# EAGLE library part M40-6002546R (library ds_con)
1.00mm Pitch DIL Vertical SMT Assembly
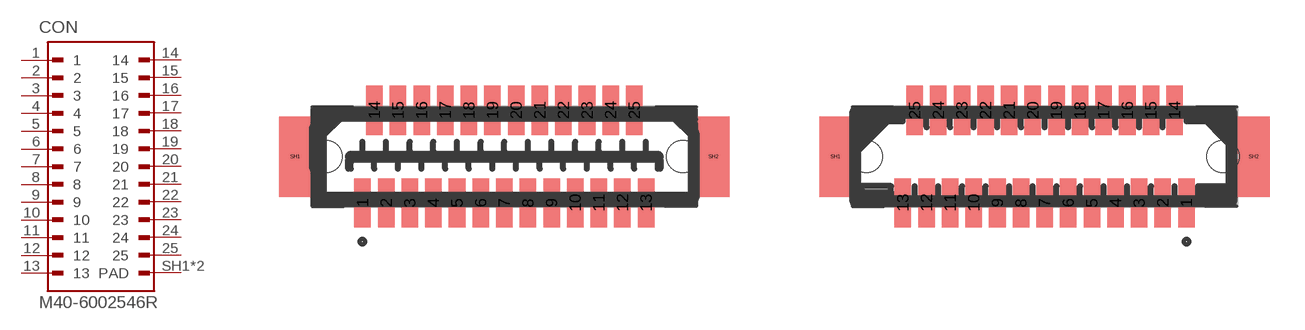
[diagram p8: symbol with the pads of M40-6002546R; footprints M40-6002546R, M40-6202546]

Designator prefix CON

## M40-6002546R (DESCRIPTION: 1.00mm Pitch DIL Vertical SMT Plug Assembly, location pegs, tin, 25 contacts, Tape & Reel packing; VALUE: M40-6002546R)  [M40-6002546R]
1  1  pas
2  2  pas
3  3  pas
4  4  pas
5  5  pas
6  6  pas
7  7  pas
8  8  pas
9  9  pas
10  10  pas
11  11  pas
12  12  pas
13  13  pas
14  14  pas
15  15  pas
16  16  pas
17  17  pas
18  18  pas
19  19  pas
20  20  pas
21  21  pas
22  22  pas
23  23  pas
24  24  pas
25  25  pas
SH1  PAD  pas
SH2  PAD  pas

## M40-6002546RA (DESCRIPTION: 1.00mm Pitch DIL Vertical SMT Socket Assembly, location pegs, tin, 25 contacts, Tape & Reel packing; VALUE: M40-6202546R)  [M40-6202546]
Pads as for M40-6002546R

## Footprint M40-6002546R (pad centres in mm)
smd 0.7 x 2.08: 1 -6,-1.96; 2 -5,-1.96; 3 -4,-1.96; 4 -3,-1.96; 5 -2,-1.96; 6 -1,-1.96; 7 0,-1.96; 8 1,-1.96; 9 2,-1.96; 10 3,-1.96; 11 4,-1.96; 12 5,-1.96; 13 6,-1.96; 14 -5.5,1.96; 15 -4.5,1.96; 16 -3.5,1.96; 17 -2.5,1.96; 18 -1.5,1.96; 19 -0.5,1.96; 20 0.5,1.96; 21 1.5,1.96; 22 2.5,1.96; 23 3.5,1.96; 24 4.5,1.96; 25 5.5,1.96
smd 0.1 x 0.1: SH1 -8.85,0; SH2 8.85,0
hole 1.35 at -7.55,0
hole 1.35 at 7.55,0

## Footprint M40-6202546 (pad centres in mm)
smd 0.7 x 2.08: 1 6,-1.96; 2 5,-1.96; 3 4,-1.96; 4 3,-1.96; 5 2,-1.96; 6 1,-1.96; 7 0,-1.96; 8 -1,-1.96; 9 -2,-1.96; 10 -3,-1.96; 11 -4,-1.96; 12 -5,-1.96; 13 -6,-1.96; 14 5.5,1.96; 15 4.5,1.96; 16 3.5,1.96; 17 2.5,1.96; 18 1.5,1.96; 19 0.5,1.96; 20 -0.5,1.96; 21 -1.5,1.96; 22 -2.5,1.96; 23 -3.5,1.96; 24 -4.5,1.96; 25 -5.5,1.96
smd 0.1 x 0.1: SH1 -8.85,0; SH2 8.85,0
hole 1.35 at -7.55,0
hole 1.35 at 7.55,0